# EAGLE library part WE-LAN_AQ_749022310 (library Wurth_Signal & Communications_WE-LAN_AQ)
WE-LAN AQ Transformer 10/100 Base-T Characteristics 100 % automatic production Ethernet with speeds up to 1 Gbit/s Low profile height of 4 mm Improved Return Loss and Crosstalk properties Improved solderability and AOI inspection due to half-vias with gold plating Compatible with existing LAN products Applications Suitable for industrial temperatures from –40 °C up to +85 °C Compatible to Industrial Ethernet systems like EtherCAT or Profinet Compliant with most IC’s for Ethernet applications such as Microchip, Texas Instruments, Broadcom, Linear Technology Hubs, Routers, Switches, IP cameras, IoT applications <https://www.we-online.com/catalog/media/o97650v209%20Family_WE-LAN%20AQ_10_100_1000BaseT.jpg> Details see: https://www.we-online.com/catalog/en/WE-LANAQ Created by Ella Wu 2020-10-26 2020 (C) Würth Elektronik
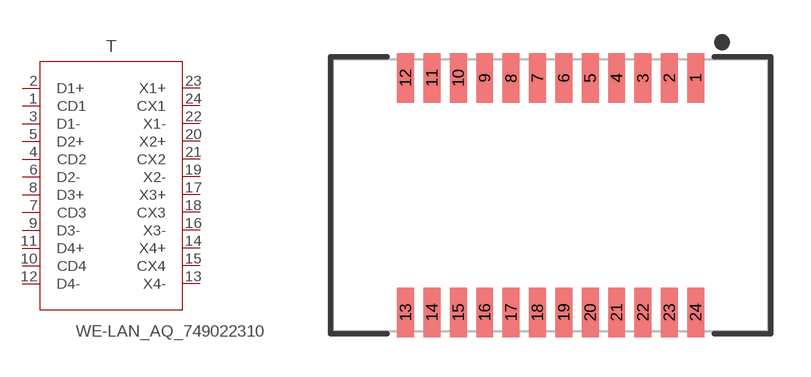
[diagram p4: symbol with the pads of WE-LANAQ_749022310; footprint WE-LANAQ_749022310]

Designator prefix T

## WE-LAN_AQ_749022310 (DATA-RATE: 1001 Base-T; DATASHEET-URL: https://www.we-online.com/catalog/datasheet/749022310.pdf; L: 150uH; MOUNT: SMT; PART-NUMBER: 749022310; POE: PoE+ (up to 720 mA); PORTS: 1; VALUE: 749022310; VT: 1500 V (RMS))  [WE-LANAQ_749022310]
1  CD1
2  D1+
3  D1-
4  CD2
5  D2+
6  D2-
7  CD3
8  D3+
9  D3-
10  CD4
11  D4+
12  D4-
13  X4-
14  X4+
15  CX4
16  X3-
17  X3+
18  CX3
19  X2-
20  X2+
21  CX2
22  X1-
23  X1+
24  CX1

## Footprint WE-LANAQ_749022310 (pad centres in mm)
WE-LAN AQ Transformer 10/100/1000 Base-T
smd 0.64 x 1.88: 1 5.5,4.44; 2 4.5,4.44; 3 3.5,4.44; 4 2.5,4.44; 5 1.5,4.44; 6 0.5,4.44; 7 -0.5,4.44; 8 -1.5,4.44; 9 -2.5,4.44; 10 -3.5,4.44; 11 -4.5,4.44; 12 -5.5,4.44; 13 -5.5,-4.44; 14 -4.5,-4.44; 15 -3.5,-4.44; 16 -2.5,-4.44; 17 -1.5,-4.44; 18 -0.5,-4.44; 19 0.5,-4.44; 20 1.5,-4.44; 21 2.5,-4.44; 22 3.5,-4.44; 23 4.5,-4.44; 24 5.5,-4.44